# Altium schematic symbol library ACM2012-900-2P-T002.SchLib: 1 symbol
Pins are listed as number, name and electrical type; pins without a type are passive.

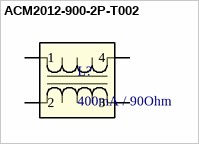
[diagram p0: symbol ACM2012-900-2P-T002]

## ACM2012-900-2P-T002
designator L?, comment 400mA / 90Ohm
2 Line Common Mode Choke Surface Mount 90 Ohms @ 100 MHz 400mA DCR 190mOhm; Mfr_Name: TDK
footprint ACM2012_TDK
pins: 1, 2, 3, 4